# EAGLE library part CHRONO_MA11-1W (library chrono)
PIN HEADER
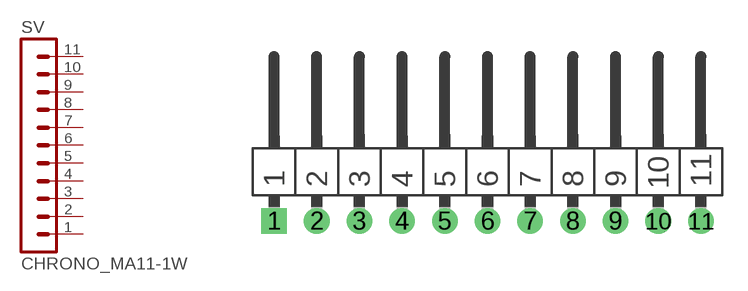
[diagram p7: symbol with the pads of CHRONO_MA11-1W; footprint CHRONO_MA11-1W]

Designator prefix SV

## CHRONO_MA11-1W (OC_FARNELL: unknown; OC_NEWARK: unknown)  [CHRONO_MA11-1W]
1  1  pas
2  2  pas
3  3  pas
4  4  pas
5  5  pas
6  6  pas
7  7  pas
8  8  pas
9  9  pas
10  10  pas
11  11  pas

## Footprint CHRONO_MA11-1W (pad centres in mm)
PIN HEADER
drill 1.016 square: 1 -13.97,0
drill 1.016: 2 -11.43,0; 3 -8.89,0; 4 -6.35,0; 5 -3.81,0; 6 -1.27,0; 7 1.27,0; 8 3.81,0; 9 6.35,0; 10 8.89,0; 11 11.43,0